# EAGLE library part MLW14 (library #PaJa_konektory)
Konektory MLW - vidlice - 14x
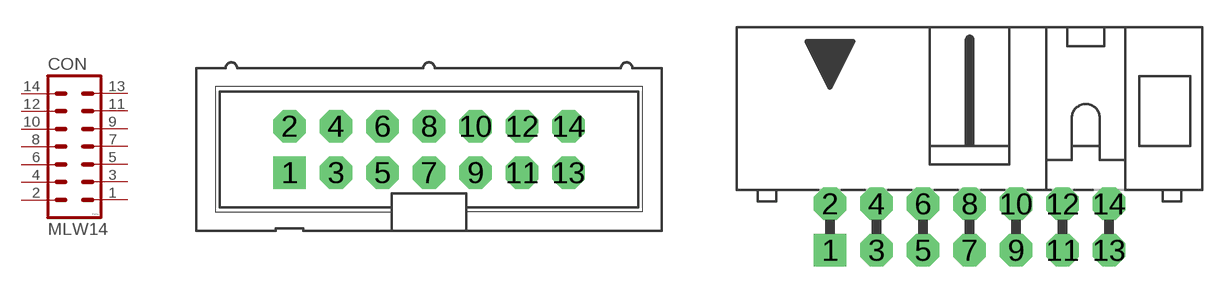
[diagram p6: symbol with the pads of MLW14G; footprints MLW14G, MLW14A]

Designator prefix CON

## MLW14  [MLW14G]
1  1  pas
2  2  pas
3  3  pas
4  4  pas
5  5  pas
6  6  pas
7  7  pas
8  8  pas
9  9  pas
10  10  pas
11  11  pas
12  12  pas
13  13  pas
14  14  pas

## MLW14_90°  [MLW14A]
Pads as for MLW14G

## MLW14_PSL  [PSL14]
Pads as for MLW14G

## Footprint MLW14G (pad centres in mm)
drill 0.914 pad 1.778 square: 1 -7.62,-1.27
drill 0.914 pad 1.778 octagon: 2 -7.62,1.27; 3 -5.08,-1.27; 4 -5.08,1.27; 5 -2.54,-1.27; 6 -2.54,1.27; 7 0,-1.27; 8 0,1.27; 9 2.54,-1.27; 10 2.54,1.27; 11 5.08,-1.27; 12 5.08,1.27; 13 7.62,-1.27; 14 7.62,1.27

## Footprint MLW14A (pad centres in mm)
drill 0.914 pad 1.778 square: 1 -7.62,-1.27
drill 0.914 pad 1.778 octagon: 2 -7.62,1.27; 3 -5.08,-1.27; 4 -5.08,1.27; 5 -2.54,-1.27; 6 -2.54,1.27; 7 0,-1.27; 8 0,1.27; 9 2.54,-1.27; 10 2.54,1.27; 11 5.08,-1.27; 12 5.08,1.27; 13 7.62,-1.27; 14 7.62,1.27

## Footprint PSL14 (pad centres in mm)
drill 0.9 pad 1.778: 1 -7.62,-1.27
drill 0.9 pad 1.778 octagon: 2 -7.62,1.27; 3 -5.08,-1.27; 4 -5.08,1.27; 5 -2.54,-1.27; 6 -2.54,1.27; 7 0,-1.27; 8 0,1.27; 9 2.54,-1.27; 10 2.54,1.27; 11 5.08,-1.27; 12 5.08,1.27; 13 7.62,-1.27; 14 7.62,1.27
hole 3.2 at -16.51,0
hole 3.2 at 16.51,0